# EAGLE library part MCP23008-E/SS (library h8-ic)
IC, I/O EXPANDER, 8BIT, 1.7MHZ
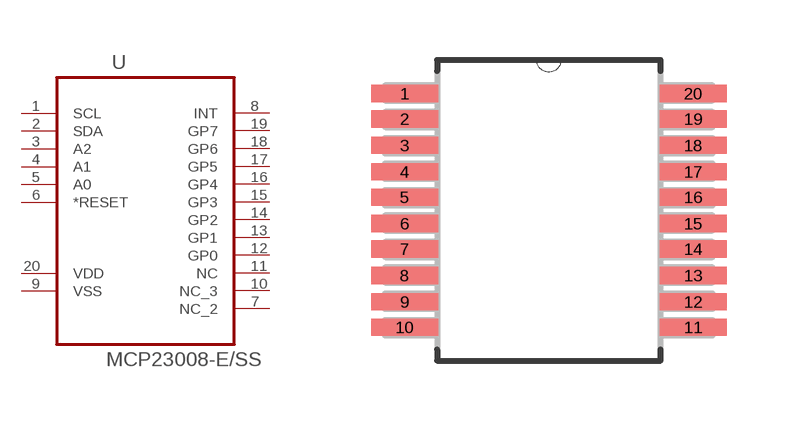
[diagram p5: symbol with the pads of SOP65P780X200-20N; footprint SOP65P780X200-20N]

Designator prefix U

## MCP23008-E/SS (MF: Microchip; MFN: MCP23008-E/SS; MOUSER: 579-MCP23008T-E/SS; PACKAGE: SSOP-20 Microchip; RS-ONLINE: 770-9707)  [SOP65P780X200-20N]
1  SCL  in
2  SDA
3  A2
4  A1  in
5  A0  in
6  *RESET  in
7  NC_2  in
8  INT  out
9  VSS  pas
10  NC_3  nc
11  NC  nc
12  GP0
13  GP1
14  GP2
15  GP3
16  GP4
17  GP5
18  GP6
19  GP7
20  VDD  pwr

## Footprint SOP65P780X200-20N (pad centres in mm)
smd 1.676 x 0.432: 1 -3.607,2.921; 2 -3.607,2.286; 3 -3.607,1.626; 4 -3.607,0.965; 5 -3.607,0.33; 6 -3.607,-0.33; 7 -3.607,-0.965; 8 -3.607,-1.626; 9 -3.607,-2.286; 10 -3.607,-2.921; 11 3.607,-2.921; 12 3.607,-2.286; 13 3.607,-1.626; 14 3.607,-0.965; 15 3.607,-0.33; 16 3.607,0.33; 17 3.607,0.965; 18 3.607,1.626; 19 3.607,2.286; 20 3.607,2.921